# Altium footprint library nichicon.PcbLib: 6 footprints
Each footprint in its own frame and in the unit in brackets; x right, y up, seen from the top. Pads: shape width x height; smd on the part's side, far side on the other; paste and mask are expansions set on the pad; w line width, h text height; cw(c..) or ccw(c..) is an arc to the next point about the centre after c.
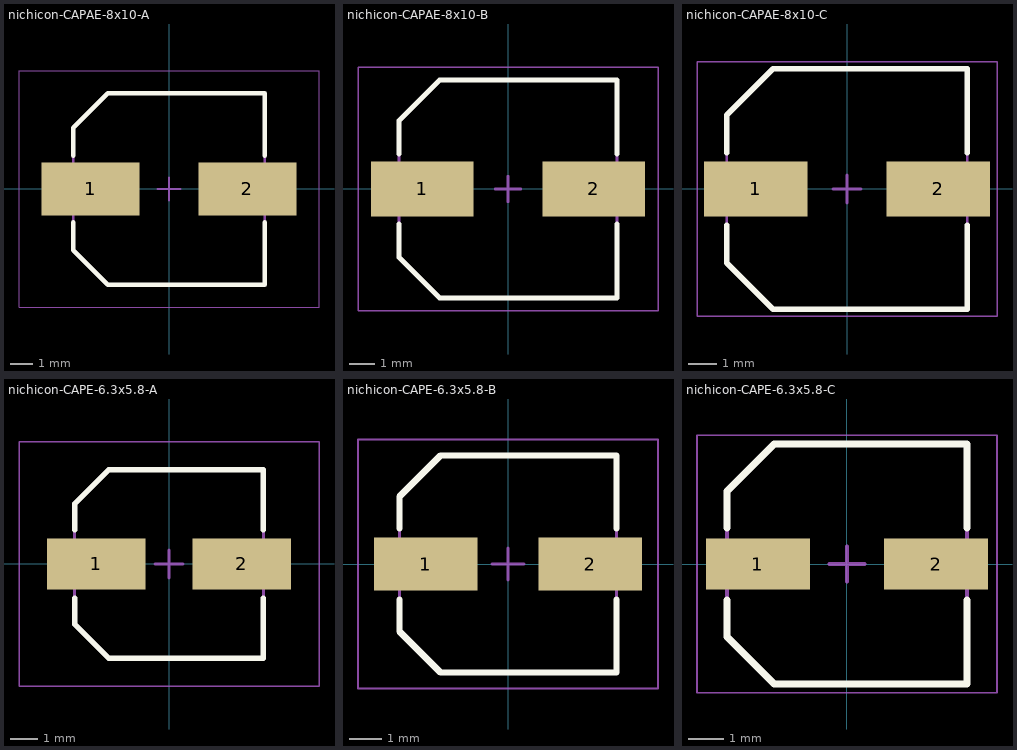
[diagram p0: the footprints below, top view; thin cyan lines are the x and y axes]

## nichicon-CAPAE-8x10-A [mm] "Aluminum Electrolytic Capacitor, Body 8.30x8.30x10.50mm, IPC Low Density"
height 10.5
pads (2):
  rect 4.35x2.35 smd: 1(-3.475,0) 2(3.475,0)
Top Overlay:
  lines w0.2: -4.25,-1.475 -4.25,-2.713 -2.712,-4.25 4.25,-4.25 4.25,-1.475 ; -4.25,1.475 -4.25,2.712 -2.712,4.25 4.25,4.25 4.25,1.475
Mechanical 13:
  lines w0.1: -4.25,-2.713 -4.25,2.712 -2.712,4.25 4.25,4.25 4.25,-4.25 -2.712,-4.25 -4.25,-2.713
Mechanical 15:
  lines w0.05: -6.65,-5.25 6.65,-5.25 6.65,5.25 -6.65,5.25 -6.65,-5.25
  lines w0.1: -0.5,0 0.5,0 ; 0,-0.5 0,0.5
3D body "nichicon-CAPAE8x10-A.step": height 10.5, standoff 0, extent -4.45,-4.25 4.45,4.25

## nichicon-CAPAE-8x10-B [mm] "Aluminum Electrolytic Capacitor, Body 8.30x8.30x10.50mm, IPC Medium Density"
height 10.5
pads (2):
  rect 4x2.15 smd: 1(-3.35,0) 2(3.35,0)
Top Overlay:
  lines w0.2: -4.25,-1.375 -4.25,-2.663 -2.663,-4.25 4.25,-4.25 4.25,-1.375 ; -4.25,1.375 -4.25,2.662 -2.663,4.25 4.25,4.25 4.25,1.375
Mechanical 13:
  lines w0.1: -4.25,-2.663 -2.663,-4.25 4.25,-4.25 4.25,4.25 -2.663,4.25 -4.25,2.662 -4.25,-2.663
Mechanical 15:
  lines w0.05: -5.85,-4.75 -5.85,4.75 5.85,4.75 5.85,-4.75 -5.85,-4.75
  lines w0.1: -0.5,0 0.5,0 ; 0,-0.5 0,0.5
3D body "nichicon-CAPAE8x10-B.step": height 10.5, standoff 0, extent -4.45,-4.25 4.45,4.25

## nichicon-CAPAE-8x10-C [mm] "Aluminum Electrolytic Capacitor, Body 8.30x8.30x10.50mm, IPC High Density"
height 10.5
pads (2):
  rect 3.65x1.95 smd: 1(-3.225,0) 2(3.225,0)
Top Overlay:
  lines w0.2: -4.25,-1.275 -4.25,-2.613 -2.612,-4.25 4.25,-4.25 4.25,-1.275 ; -4.25,1.275 -4.25,2.612 -2.612,4.25 4.25,4.25 4.25,1.275
Mechanical 13:
  lines w0.1: -4.25,-2.613 -2.612,-4.25 4.25,-4.25 4.25,4.25 -2.612,4.25 -4.25,2.612 -4.25,-2.613
Mechanical 15:
  lines w0.05: -5.3,-4.5 -5.3,4.5 5.3,4.5 5.3,-4.5 -5.3,-4.5
  lines w0.1: -0.5,0 0.5,0 ; 0,-0.5 0,0.5
3D body "nichicon-CAPAE8x10-C.step": height 10.5, standoff 0, extent -4.45,-4.25 4.45,4.25

## nichicon-CAPE-6.3x5.8-A [mm] "Aluminum Electrolytic Capacitor, Body 6.60x6.60x6.20mm, IPC Low Density"
height 6.2
pads (2):
  rect 3.55x1.85 smd: 1(-2.625,0) 2(2.625,0)
Top Overlay:
  lines w0.2: -3.4,-1.225 -3.4,-2.163 -2.163,-3.4 3.4,-3.4 3.4,-1.225 ; -3.4,1.225 -3.4,2.163 -2.163,3.4 3.4,3.4 3.4,1.225
Mechanical 13:
  lines w0.1: -3.4,-2.163 -2.163,-3.4 3.4,-3.4 3.4,3.4 -2.163,3.4 -3.4,2.163 -3.4,-2.163
Mechanical 15:
  lines w0.05: -5.4,-4.4 -5.4,4.4 5.4,4.4 5.4,-4.4 -5.4,-4.4
  lines w0.1: -0.5,0 0.5,0 ; 0,-0.5 0,0.5
3D body "nichicon_CAPE_6.3x5.8_A.step": height 6.2, standoff -0.1, extent -3.5,-3.4 3.5,3.4

## nichicon-CAPE-6.3x5.8-B [mm] "Aluminum Electrolytic Capacitor, Body 6.60x6.60x6.20mm, IPC Medium Density"
height 6.2
pads (2):
  rect 3.25x1.65 smd: 1(-2.575,0) 2(2.575,0)
Top Overlay:
  lines w0.2: -3.4,-1.125 -3.4,-2.113 -2.113,-3.4 3.4,-3.4 3.4,-1.125 ; -3.4,1.125 -3.4,2.113 -2.113,3.4 3.4,3.4 3.4,1.125
Mechanical 13:
  lines w0.1: -3.4,-2.113 -2.113,-3.4 3.4,-3.4 3.4,3.4 -2.113,3.4 -3.4,2.113 -3.4,-2.113
Mechanical 15:
  lines w0.05: -4.7,-3.9 -4.7,3.9 4.7,3.9 4.7,-3.9 -4.7,-3.9
  lines w0.1: -0.5,0 0.5,0 ; 0,-0.5 0,0.5
3D body "nichicon_CAPE_6.3x5.8_B.step": height 6.2, standoff -0.1, extent -3.5,-3.4 3.5,3.4

## nichicon-CAPE-6.3x5.8-C [mm] "Aluminum Electrolytic Capacitor, Body 6.60x6.60x6.20mm, IPC High Density"
height 6.2
pads (2):
  rect 2.95x1.45 smd: 1(-2.525,0) 2(2.525,0)
Top Overlay:
  lines w0.2: -3.4,-1.025 -3.4,-2.063 -2.062,-3.4 3.4,-3.4 3.4,-1.025 ; -3.4,1.025 -3.4,2.063 -2.062,3.4 3.4,3.4 3.4,1.025
Mechanical 13:
  lines w0.1: -3.4,-2.063 -3.4,2.063 -2.062,3.4 3.4,3.4 3.4,-3.4 -2.062,-3.4 -3.4,-2.063
Mechanical 15:
  lines w0.05: -4.25,-3.65 4.25,-3.65 4.25,3.65 -4.25,3.65 -4.25,-3.65
  lines w0.1: -0.5,0 0.5,0 ; 0,-0.5 0,0.5
3D body "nichicon_CAPE_6.3x5.8_C.step": height 6.2, standoff -0.1, extent -3.5,-3.4 3.5,3.4